# Altium schematic symbol library 91215.SchLib: 1 symbol
Pins are listed as number, name and electrical type; pins without a type are passive.

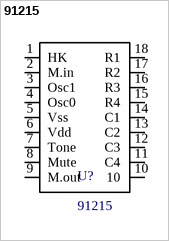
[diagram p0: symbol 91215]

## 91215
designator U?
footprint HT9170
pins: 1 HK, 2 M.in, 3 Osc1, 4 Osc0, 5 Vss, 6 Vdd, 7 Tone, 8 Mute, 9 M.out (power), 10, 11 C4, 12 C3, 13 C2, 14 C1, 15 R4, 16 R3, 17 R2, 18 R1 (power)